# Altium schematic symbol library LT3693.SchLib: 1 symbol
Pins are listed as number, name and electrical type; pins without a type are passive.

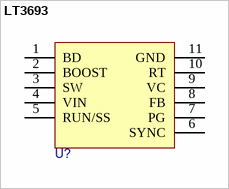
[diagram p0: symbol LT3693]

## LT3693
designator U?
pins: 1 BD, 2 BOOST, 3 SW, 4 VIN, 5 RUN/SS, 6 SYNC, 7 PG, 8 FB, 9 VC, 10 RT, 11 GND